# Altium footprint library EsoCore.PcbLib: 105 footprints (part 7 of 7)
Each footprint in its own frame and in the unit in brackets; x right, y up, seen from the top. Pads: shape width x height; smd on the part's side, far side on the other; paste and mask are expansions set on the pad; w line width, h text height; cw(c..) or ccw(c..) is an arc to the next point about the centre after c.
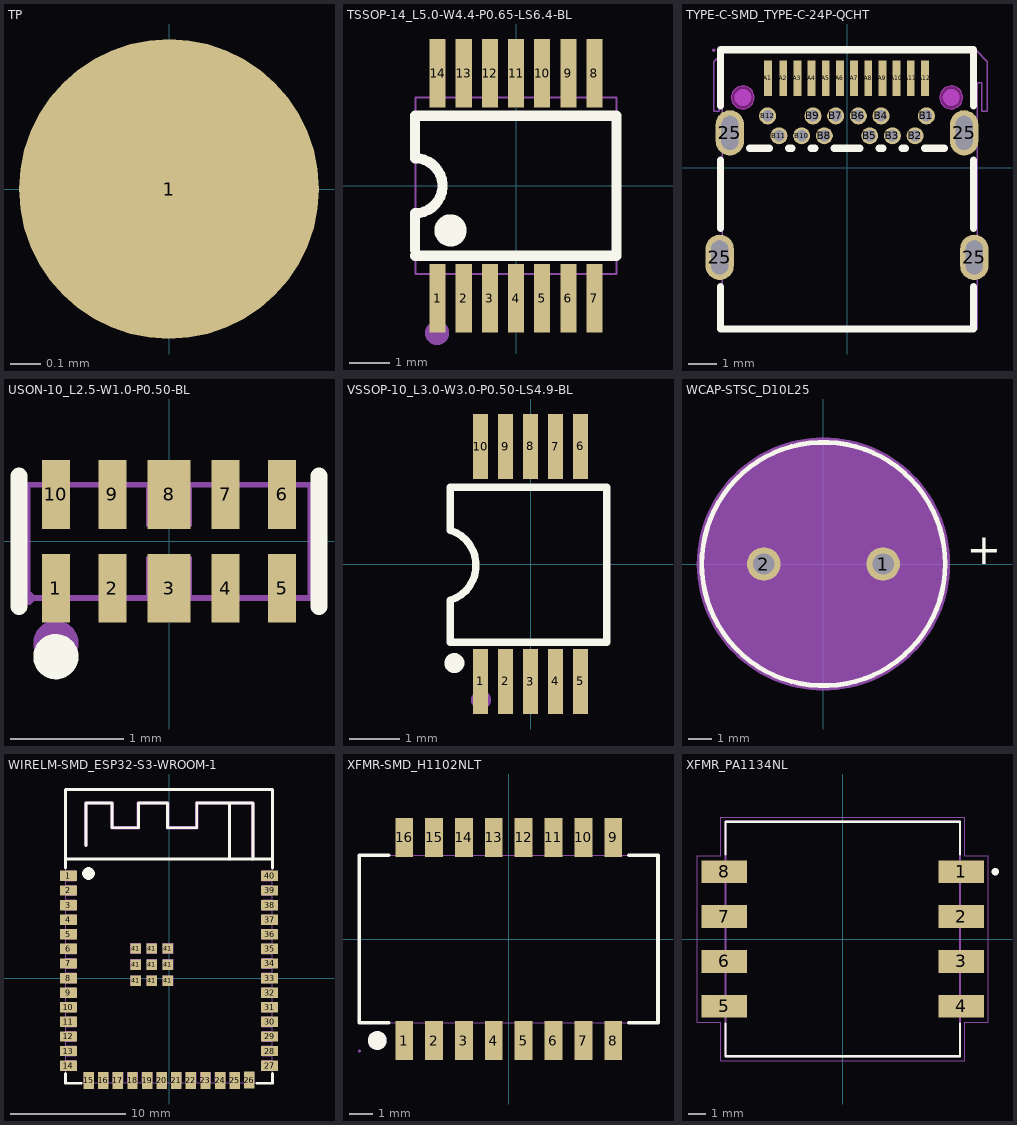
[diagram p6: the footprints below, top view; thin cyan lines are the x and y axes]

## TP [mm]
pads (1):
  round 1 smd: 1(0,0)

## TSSOP-14_L5.0-W4.4-P0.65-LS6.4-BL [mm]
pads (14):
  rect 0.4x1.7 smd: 1(-1.95,-2.8) 2(-1.3,-2.8) 3(-0.65,-2.8) 4(0,-2.8) 5(0.65,-2.8) 6(1.3,-2.8) 7(1.95,-2.8) 8(1.95,2.8) 9(1.3,2.8) 10(0.65,2.8) 11(0,2.8) 12(-0.65,2.8) 13(-1.3,2.8) 14(-1.95,2.8)
Top Overlay:
  circle w0.4: c-1.63,-1.11 r0.2
  lines w0.254: -2.515,-1.74 2.5,-1.74 2.5,1.743 -2.515,1.743 -2.515,0.686 cw(c-2.515,0) -2.515,-0.686 -2.515,-1.6
Mechanical 6:
  circle w0.3: c-1.964,-3.662 r0.15
Mechanical 15:
  drawing of 33 lines, arcs and shapes, not listed
3D body "tssop14X.step": height 1.1, standoff 0, extent -2.5,-3.006 2.5,3.006

## TYPE-C-SMD_TYPE-C-24P-QCHT [mm]
pads (28):
  oval 1x1.6 hole 0.6 slot 1.2 at 90 deg paste-2539.97 mask+0.05: 25(-4.49,-3.158) 25(-4.13,1.233) 25(4.13,1.233) 25(4.49,-3.158)
  rect 0.275x1.25 smd paste-100 mask+0.05: A1(-2.79,3.158) A2(-2.25,3.158) A3(-1.75,3.158) A4(-1.25,3.158) A5(-0.75,3.158) A6(-0.25,3.158) A7(0.25,3.158) A8(0.75,3.158) A9(1.25,3.158) A10(1.75,3.158) A11(2.25,3.158) A12(2.75,3.158)
  round 0.6 hole 0.4 paste-2539.97 mask+0.05: B1(2.8,1.832) B2(2.4,1.132) B3(1.6,1.133) B4(1.2,1.832) B5(0.8,1.133) B6(0.4,1.833) B7(-0.4,1.832) B8(-0.8,1.132) B9(-1.2,1.833) B10(-1.6,1.133) B11(-2.4,1.132) B12(-2.8,1.833)
Top Overlay:
  lines w0.254: -4.46,-4.188 -4.46,-5.688 4.46,-5.688 4.46,-4.188 ; -4.46,-2.127 -4.46,0.28 ; -4.46,2.185 -4.46,4.162 4.46,4.162 4.46,2.185 ; -3.44,0.691 -2.737,0.691 ; -2.063,0.691 -1.937,0.691 ; -1.263,0.691 -1.137,0.691 ; -0.463,0.691 0.463,0.691 ; 1.137,0.691 1.263,0.691 ; 1.937,0.691 2.063,0.691 ; 2.737,0.691 3.44,0.691 ; 4.46,-2.127 4.46,0.28
Top Paste:
  drawing of 28 lines, arcs and shapes, not listed
Keep-Out Layer:
  board cut-out: -3.675,2.083 -3.755,2.083 -3.902,2.144 -4.014,2.256 -4.075,2.403 -4.075,2.563 -4.014,2.71 -3.902,2.822 -3.755,2.883 -3.675,2.883 -3.595,2.883 -3.448,2.822 -3.336,2.71 -3.275,2.563 -3.275,2.403 -3.336,2.256 -3.448,2.144 -3.595,2.083 -3.675,2.083
  board cut-out: 3.675,2.083 3.595,2.083 3.448,2.144 3.336,2.256 3.275,2.403 3.275,2.563 3.336,2.71 3.448,2.822 3.595,2.883 3.675,2.883 3.755,2.883 3.902,2.822 4.014,2.71 4.075,2.563 4.075,2.403 4.014,2.256 3.902,2.144 3.755,2.083 3.675,2.083
Keep-Out Layer:
  circle w0.005: c-3.675,2.483 r0.4
  circle w0.005: c3.675,2.483 r0.4
  region: -3.675,2.083 -3.755,2.083 -3.902,2.144 -4.014,2.256 -4.075,2.403 -4.075,2.563 -4.014,2.71 -3.902,2.822 -3.755,2.883 -3.675,2.883 -3.595,2.883 -3.448,2.822 -3.336,2.71 -3.275,2.563 -3.275,2.403 -3.336,2.256 -3.448,2.144 -3.595,2.083 -3.675,2.083
  region: 3.675,2.083 3.595,2.083 3.448,2.144 3.336,2.256 3.275,2.403 3.275,2.563 3.336,2.71 3.448,2.822 3.595,2.883 3.675,2.883 3.755,2.883 3.902,2.822 4.014,2.71 4.075,2.563 4.075,2.403 4.014,2.256 3.902,2.144 3.755,2.083 3.675,2.083
Mechanical 1:
  circle w0.005: c-3.675,2.483 r0.4
  circle w0.005: c3.675,2.483 r0.4
Mechanical 6:
  circle w0.3: c-3.675,2.483 r0.15
  circle w0.3: c3.675,2.483 r0.15
Mechanical 15:
  drawing of 43 lines, arcs and shapes, not listed
3D body "USBX.step": height 3.21, standoff -1.2, extent -4.82,-5.688 4.82,4.162

## USON-10_L2.5-W1.0-P0.50-BL [mm]
pads (10):
  rect 0.25x0.609 smd: 1(-1,-0.415) 2(-0.5,-0.415) 4(0.5,-0.415) 5(1,-0.415) 6(1,0.415) 7(0.5,0.415) 9(-0.5,0.415) 10(-1,0.415)
  rect 0.38x0.609 smd: 3(0,-0.415) 8(0,0.415)
Top Overlay:
  circle w0.2: c-1,-1.019 r0.1
  lines w0.152: -1.326,-0.576 -1.326,0.576 ; 1.326,-0.576 1.326,0.576
Mechanical 6:
  circle w0.2: c-1,-0.9 r0.1
Mechanical 15:
  region: -1.19,-0.5 -1.19,-0.525 -1.225,-0.56 -1.275,-0.56 -1.31,-0.525 -1.31,-0.5 -1.31,-0.475 -1.275,-0.44 -1.225,-0.44 -1.19,-0.475 -1.19,-0.5
  region: -0.2,-0.5 -0.2,-0.135 0.2,-0.135 0.2,-0.5
  region: 0.2,0.5 0.2,0.135 -0.2,0.135 -0.2,0.5
  region: -1.1,-0.135 -0.9,-0.135 -0.9,-0.5 -1.1,-0.5
  region: -0.6,-0.135 -0.4,-0.135 -0.4,-0.5 -0.6,-0.5
  region: 0.4,-0.135 0.6,-0.135 0.6,-0.5 0.4,-0.5
  region: 0.9,-0.135 1.1,-0.135 1.1,-0.5 0.9,-0.5
  region: -1.1,0.5 -0.9,0.5 -0.9,0.135 -1.1,0.135
  region: -0.6,0.5 -0.4,0.5 -0.4,0.135 -0.6,0.135
  region: 0.4,0.5 0.6,0.5 0.6,0.135 0.4,0.135
  region: 0.9,0.5 1.1,0.5 1.1,0.135 0.9,0.135
  lines w0.051: -1.25,-0.5 -1.25,0.5 1.25,0.5 1.25,-0.5 -1.25,-0.5
3D body "esd.step": height 0.61, standoff 0, extent -1.25,-0.51 1.25,0.51

## VSSOP-10_L3.0-W3.0-P0.50-LS4.9-BL [mm]
pads (10):
  rect 0.3x1.3 smd paste+0 mask+0.015: 1(-1,-2.35) 2(-0.5,-2.35) 3(0,-2.35) 4(0.5,-2.35) 5(1,-2.35)
  rect 0.3x1.3 smd paste+0 mask+0.051: 6(1,2.35) 7(0.5,2.35) 8(0,2.35) 9(-0.5,2.35) 10(-1,2.35)
Top Overlay:
  circle w0.2: c-1.524,-1.981 r0.1
  lines w0.15: -1.603,-1.562 -1.603,-0.724 ccw(c-1.82,-0.026) -1.603,0.673 ; -1.603,0.698 -1.603,1.537 ; -1.578,-1.562 1.522,-1.562 ; -1.578,1.537 1.522,1.537 1.522,-1.564
Mechanical 15:
  circle w0.2: c-0.99,-2.718 r0.1
3D body "SSOPX.step": height 1.25, standoff -0.01, extent -1.511,-2.602 1.489,2.411

## WCAP-STSC_D10L25 [mm]
pads (2):
  round 1.408 hole 0.9 mask+0.102: 1(2.5,0) 2(-2.5,0)
Top Overlay:
  circle w0.2: c0,0 r5.1
  text "+" at 6,0 h1.27
Mechanical 13:
  circle w0.1: c0,0 r5
  text "+" at 6,0 h1.27
Mechanical 15:
  region: 0.277,5.293 0.554,5.271 0.829,5.235 1.102,5.184 1.372,5.119 1.638,5.041 1.899,4.948 2.156,4.842 2.406,4.722 2.65,4.59 2.887,4.445 3.115,4.288 3.335,4.119 3.546,3.939 3.748,3.748 3.939,3.546 4.119,3.335 4.288,3.115 4.445,2.887 4.59,2.65 4.722,2.406 4.842,2.156 4.948,1.899 5.041,1.638 5.119,1.372 5.184,1.102 5.235,0.829 5.271,0.554 5.293,0.277 5.3,0 5.293,-0.277 5.271,-0.554 5.235,-0.829 5.184,-1.102 5.119,-1.372 5.041,-1.638 4.948,-1.899 4.842,-2.156 4.722,-2.406 4.59,-2.65 4.445,-2.887 4.288,-3.115 4.119,-3.335 3.939,-3.546 3.748,-3.748 3.546,-3.939 3.335,-4.119 3.115,-4.288 2.887,-4.445 2.65,-4.59 2.406,-4.722 2.156,-4.842 1.899,-4.948 1.638,-5.041 1.372,-5.119 1.102,-5.184 0.829,-5.235 0.554,-5.271 0.277,-5.293 0,-5.3 -0.277,-5.293 -0.554,-5.271 -0.829,-5.235 -1.102,-5.184 -1.372,-5.119 -1.638,-5.041 -1.899,-4.948 -2.156,-4.842 -2.406,-4.722 -2.65,-4.59 -2.887,-4.445 -3.115,-4.288 -3.335,-4.119 -3.546,-3.939 -3.748,-3.748 -3.939,-3.546 -4.119,-3.335 -4.288,-3.115 -4.445,-2.887 -4.59,-2.65 -4.722,-2.406 -4.842,-2.156 -4.948,-1.899 -5.041,-1.638 -5.119,-1.372 -5.184,-1.102 -5.235,-0.829 -5.271,-0.554 -5.293,-0.277 -5.3,0 -5.293,0.277 -5.271,0.554 -5.235,0.829 -5.184,1.102 -5.119,1.372 -5.041,1.638 -4.948,1.899 -4.842,2.156 -4.722,2.406 -4.59,2.65 -4.445,2.887 -4.288,3.115 -4.119,3.335 -3.939,3.546 -3.748,3.748 -3.546,3.939 -3.335,4.119 -3.115,4.288 -2.887,4.445 -2.65,4.59 -2.406,4.722 -2.156,4.842 -1.899,4.948 -1.638,5.041 -1.372,5.119 -1.102,5.184 -0.829,5.235 -0.554,5.271 -0.277,5.293 0,5.3
3D body "sup_cap_x32.step": height 24.89, standoff -3.62, extent -4.99,-5 4.99,4.998

## WIRELM-SMD_ESP32-S3-WROOM-1 [mm]
pads (49):
  rect 1.5x0.9 smd paste+0 mask+0.05: 1(-8.75,8.895) 2(-8.75,7.625) 3(-8.75,6.355) 4(-8.75,5.085) 5(-8.75,3.815) 6(-8.75,2.545) 7(-8.75,1.275) 8(-8.75,0.005) 9(-8.75,-1.265) 10(-8.75,-2.535) 11(-8.75,-3.805) 12(-8.75,-5.075) 13(-8.75,-6.345) 14(-8.75,-7.615) 27(8.75,-7.615) 28(8.75,-6.345) 29(8.75,-5.075) 30(8.75,-3.805) 31(8.75,-2.535) 32(8.75,-1.265) 33(8.75,0.005) 34(8.75,1.275) 35(8.75,2.545) 36(8.75,3.815) 37(8.75,5.085) 38(8.75,6.355) 39(8.75,7.625) 40(8.75,8.895)
  rect 0.9x1.5 smd paste+0 mask+0.05: 15(-6.985,-8.895) 16(-5.715,-8.895) 17(-4.445,-8.895) 18(-3.175,-8.895) 19(-1.905,-8.895) 20(-0.635,-8.895) 21(0.635,-8.895) 22(1.905,-8.895) 23(3.175,-8.895) 24(4.445,-8.895) 25(5.715,-8.895) 26(6.985,-8.865)
  rect 0.9x0.9 smd: 41(-2.9,-0.225) 41(-2.9,1.175) 41(-2.9,2.575) 41(-1.5,-0.225) 41(-1.5,1.175) 41(-1.5,2.575) 41(-0.1,-0.225) 41(-0.1,1.175) 41(-0.1,2.575)
Top Overlay:
  region: -7.529,9.1 -7.529,9.205 -7.448,9.399 -7.299,9.548 -7.105,9.629 -6.895,9.629 -6.701,9.548 -6.552,9.399 -6.471,9.205 -6.471,9.1 -6.471,8.995 -6.552,8.801 -6.701,8.652 -6.895,8.571 -7.105,8.571 -7.299,8.652 -7.448,8.801 -7.529,8.995 -7.529,9.1
  lines w0.254: -9,-8.296 -9,-9.144 -7.666,-9.144 ; -9,9.576 -9,16.395 9,16.395 ; -9,10.355 9.017,10.355 ; -7.239,11.557 -7.239,15.24 -4.953,15.24 -4.953,13.081 -2.667,13.081 -2.667,15.24 -0.127,15.24 -0.127,13.081 2.413,13.081 2.413,15.24 5.265,15.24 5.265,10.355 ; 5.062,15.24 7.297,15.24 7.297,10.355 ; 7.666,-9.144 9.017,-9.144 9.017,-8.296 ; 9.017,9.576 9.017,16.383
Mechanical 6:
  drawing of 2 lines, arcs and shapes, not listed
Mechanical 15:
  drawing of 54 lines, arcs and shapes, not listed
3D body "esp32s3X.step": height 3.11, standoff 0, extent -9.001,-9.101 9.001,16.4

## XFMR-SMD_H1102NLT [mm]
pads (16):
  rect 0.76x1.66 smd: 1(-4.445,-4.318) 2(-3.175,-4.318) 3(-1.905,-4.318) 4(-0.635,-4.318) 5(0.635,-4.318) 6(1.905,-4.318) 7(3.175,-4.318) 8(4.445,-4.318) 9(4.445,4.318) 10(3.175,4.318) 11(1.905,4.318) 12(0.635,4.318) 13(-0.635,4.318) 14(-1.905,4.318) 15(-3.175,4.318) 16(-4.445,4.318)
Top Overlay:
  circle w0.4: c-5.588,-4.318 r0.2
  lines w0.15: -5.1,-3.555 -6.35,-3.555 -6.35,3.555 -5.1,3.555 ; 5.1,-3.555 6.35,-3.555 6.35,3.555 5.1,3.555
Mechanical 6:
  circle w0.4: c-5.588,-4.318 r0.2
Mechanical 15:
  drawing of 37 lines, arcs and shapes, not listed
3D body "xmfrX.step": height 6.55, standoff 0, extent -6.35,-4.765 6.35,4.765

## XFMR_PA1134NL [mm]
height 11.45
pads (8):
  rect 2.54x1.27 smd: 1(6.605,3.75) 2(6.605,1.25) 3(6.605,-1.25) 4(6.605,-3.75) 5(-6.605,-3.75) 6(-6.605,-1.25) 7(-6.605,1.25) 8(-6.605,3.75)
Top Overlay:
  circle w0.2: c8.5,3.75 r0.1
  lines w0.127: -6.54,-4.705 -6.54,-6.54 6.54,-6.54 6.54,-4.705 ; -6.54,4.705 -6.54,6.54 6.54,6.54 6.54,4.705
Mechanical 13:
  circle w0.2: c8.5,3.75 r0.1
  lines w0.127: -6.54,-6.54 -6.54,6.54 6.54,6.54 6.54,-6.54 -6.54,-6.54
Mechanical 15:
  lines w0.05: -8.125,-4.635 -8.125,4.635 -6.79,4.635 -6.79,6.79 6.79,6.79 6.79,4.635 8.125,4.635 8.125,-4.635 6.79,-4.635 6.79,-6.79 -6.79,-6.79 -6.79,-4.635 -8.125,-4.635
3D body: height 0.93, standoff 0, extent -7.874,-6.548 7.871,6.566
3D body: height 11.54, standoff 0.93, extent -6.604,-6.604 6.604,6.604